# EAGLE library part PCA9000 (library test_lib)
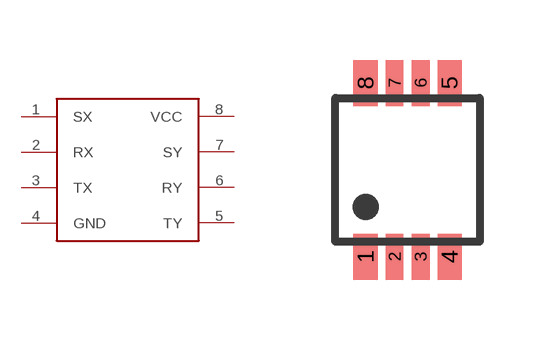
[diagram p2: symbol with the pads of TSSOP8; footprint TSSOP8]

Designator prefix -

## PCA9000  [TSSOP8]
1  SX
2  RX
3  TX
4  GND
5  TY
6  RY
7  SY
8  VCC

## Footprint TSSOP8 (pad centres in mm)
Plastic Small Outline
smd 0.6 x 1.15: 1 -1.05,-2.175; 4 1.05,-2.175; 5 1.05,2.175; 8 -1.05,2.175
smd 0.45 x 1.15: 2 -0.325,-2.175; 3 0.325,-2.175; 6 0.325,2.175; 7 -0.325,2.175